# EAGLE library part PAN1322 (library prj-hdmi)
All-In-One, Place and Play Bluetooth Module
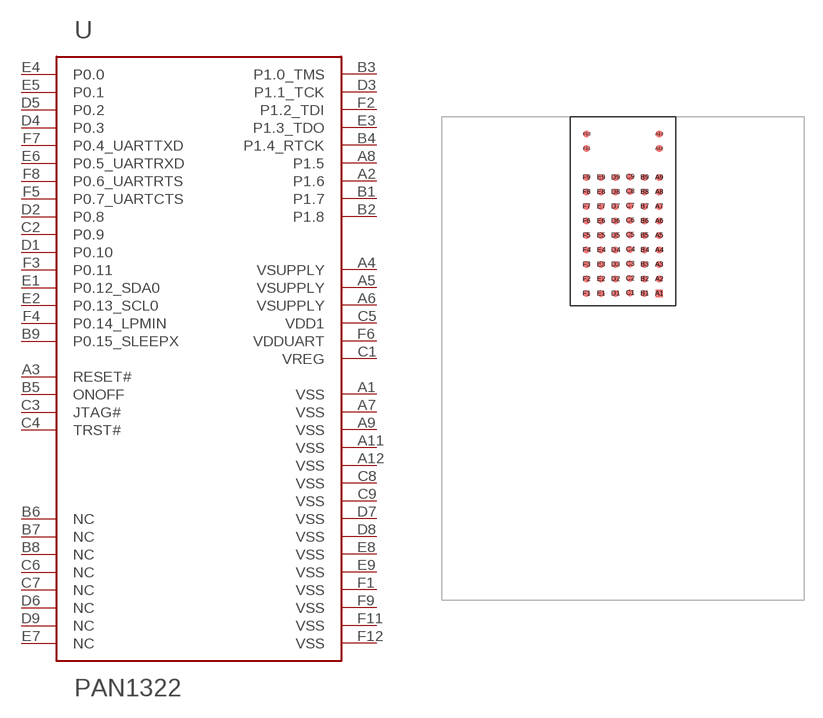
[diagram p12: symbol with the pads of PAN1322; footprint PAN1322]

Designator prefix -

## PAN1322  [PAN1322]
A1  VSS  pwr
A2  P1.6
A3  RESET#  in
A4  VSUPPLY  pwr
A5  VSUPPLY  pwr
A6  VSUPPLY  pwr
A7  VSS  pwr
A8  P1.5
A9  VSS  pwr
A11  VSS  pwr
A12  VSS  pwr
B1  P1.7
B2  P1.8
B3  P1.0_TMS
B4  P1.4_RTCK
B5  ONOFF  in
B6  NC  nc
B7  NC  nc
B8  NC  nc
B9  P0.15_SLEEPX
C1  VREG  sup
C2  P0.9
C3  JTAG#  in
C4  TRST#  in
C5  VDD1  pwr
C6  NC  nc
C7  NC  nc
C8  VSS  pwr
C9  VSS  pwr
D1  P0.10
D2  P0.8
D3  P1.1_TCK
D4  P0.3
D5  P0.2
D6  NC  nc
D7  VSS  pwr
D8  VSS  pwr
D9  NC  nc
E1  P0.12_SDA0
E2  P0.13_SCL0
E3  P1.3_TDO
E4  P0.0
E5  P0.1
E6  P0.5_UARTRXD
E7  NC  nc
E8  VSS  pwr
E9  VSS  pwr
F1  VSS  pwr
F2  P1.2_TDI
F3  P0.11
F4  P0.14_LPMIN
F5  P0.7_UARTCTS
F6  VDDUART  pwr
F7  P0.4_UARTTXD
F8  P0.6_UARTRTS
F9  VSS  pwr
F11  VSS  pwr
F12  VSS  pwr

## Footprint PAN1322 (pad centres in mm)
smd 0.6 x 0.6: A1 2.995,-6.625; A2 2.995,-5.425; A3 2.995,-4.225; A4 2.995,-3.025; A5 2.995,-1.825; A6 2.995,-0.625; A7 2.995,0.575; A8 2.995,1.775; A9 2.995,2.975; A11 2.995,5.375; A12 2.995,6.575; B1 1.795,-6.625; B2 1.795,-5.425; B3 1.795,-4.225; B4 1.795,-3.025; B5 1.795,-1.825; B6 1.795,-0.625; B7 1.795,0.575; B8 1.795,1.775; B9 1.795,2.975; C1 0.595,-6.575; C2 0.595,-5.375; C3 0.595,-4.175; C4 0.595,-2.975; C5 0.595,-1.775; C6 0.595,-0.575; C7 0.595,0.625; C8 0.595,1.825; C9 0.595,3.025; D1 -0.605,-6.625; D2 -0.605,-5.425; D3 -0.605,-4.225; D4 -0.605,-3.025; D5 -0.605,-1.825; D6 -0.605,-0.625; D7 -0.605,0.575; D8 -0.605,1.775; D9 -0.605,2.975; E1 -1.805,-6.625; E2 -1.805,-5.425; E3 -1.805,-4.225; E4 -1.805,-3.025; E5 -1.805,-1.825; E6 -1.805,-0.625; E7 -1.805,0.575; E8 -1.805,1.775; E9 -1.805,2.975; F1 -3.005,-6.625; F2 -3.005,-5.425; F3 -3.005,-4.225; F4 -3.005,-3.025; F5 -3.005,-1.825; F6 -3.005,-0.625; F7 -3.005,0.575; F8 -3.005,1.775; F9 -3.005,2.975; F11 -3.005,5.375; F12 -3.005,6.575